# Altium schematic symbol library 54602-908LF.SchLib: 1 symbol
Pins are listed as number, name and electrical type; pins without a type are passive.

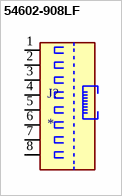
[diagram p0: symbol 54602-908LF]

## 54602-908LF
designator J?
Modular Jack, Input Output Connectors, Cat 3 Single Modular Jack, Horizontal, Board Through Mount, 8P8C, 1 Port; MF: AMPHENOL ICC / FCI; MP: 54602-908LF; Value: *; SnapEDA_Link: https://www.snapeda.com/parts/54602-908LF/Amphenol/view-part/?ref=snap; Purchase-URL: https://pricing.snapeda.com/search/part/54602-908LF/?ref=eda; Check_prices: https://www.snapeda.com/parts/54602-908LF/Amphenol/view-part/?ref=eda; Digi-Key_Part_Number: 609-1046-ND; Package: None
footprint AMPHENOL_54602-908LF
pins: 1, 2, 3, 4, 5, 6, 7, 8